# Altium footprint library 1N5819.PcbLib: 2 footprints
Each footprint in its own frame and in the unit in brackets; x right, y up, seen from the top. Pads: shape width x height; smd on the part's side, far side on the other; paste and mask are expansions set on the pad; w line width, h text height; cw(c..) or ccw(c..) is an arc to the next point about the centre after c.
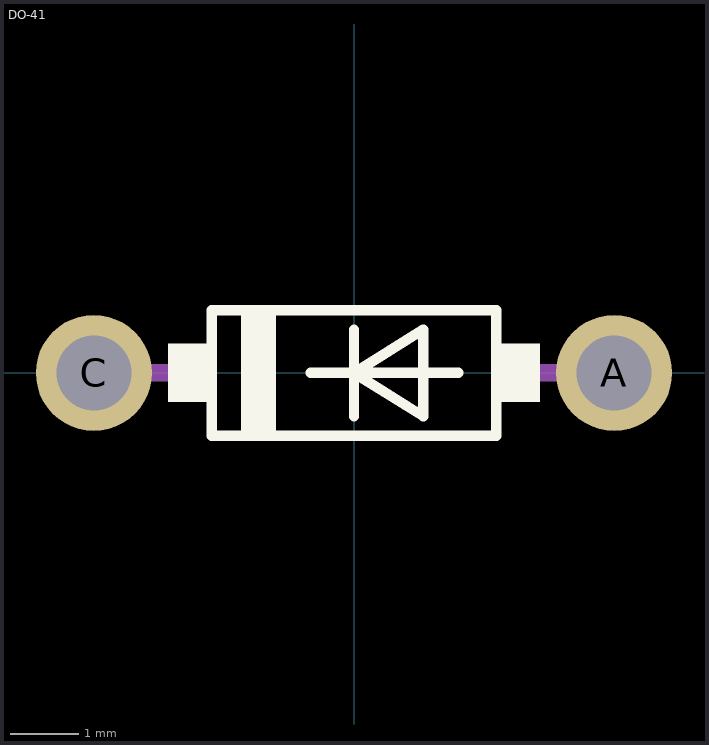
[diagram p0: the footprints below, top view; thin cyan lines are the x and y axes]

## DO-41 [mm]
pads (2):
  round 1.7 hole 1.1: A(3.81,0) C(-3.81,0)
Top Overlay:
  region: -1.654,0.92 -1.143,0.92 -1.143,-0.952 -1.654,-0.952
  region: 2.085,0.425 2.717,0.425 2.717,-0.426 2.085,-0.426
  region: -2.718,0.425 -2.082,0.425 -2.082,-0.425 -2.718,-0.425
  lines w0.152: -0.635,0 0,0 ; 0,-0.635 0,0 ; 0,0.635 0,0 ; 1.524,0 0,0 ; 0,0 1.016,-0.635 1.016,0.635 0,0 ; -2.082,-0.92 2.082,-0.92 2.082,0.92 -2.082,0.92 -2.082,-0.92
Mechanical 4:
  lines w0.254: -3.81,0 -2.519,0 -3.81,0 ; 2.494,0 3.81,0 2.494,0

## PCBComponent_1 [mm]